# EAGLE library part PICO_RP2040_PICO_RP2040 (library ROSPIN School Payload)
Check availability <https://pricing.snapeda.com/parts/SC0915/Raspberry%20Pi/view-part?ref=eda>
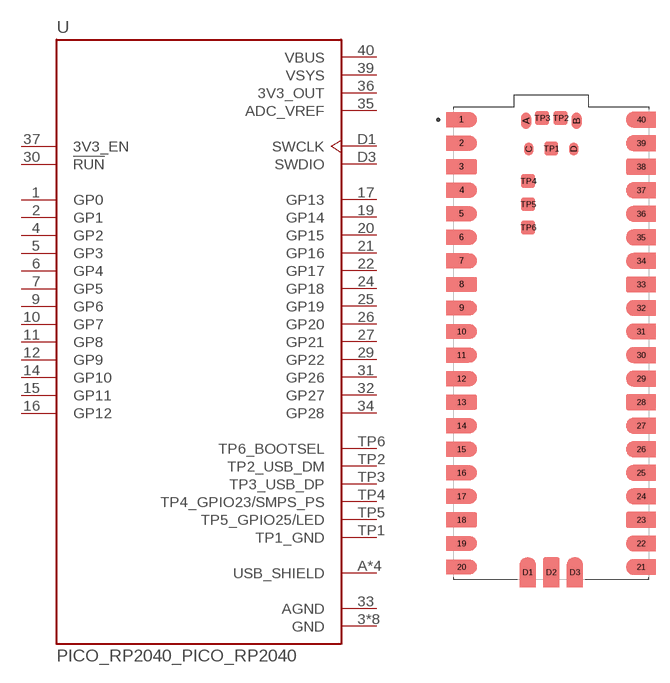
[diagram p4: symbol with the pads of PICO_RP2040_MODULE_PICO_RP2040; footprint PICO_RP2040_MODULE_PICO_RP2040]

Designator prefix U

## PICO_RP2040_PICO_RP2040 (AVAILABILITY: In Stock; DESCRIPTION: RP2040 Raspberry Pi Pico series ARM® Cortex®-M0+ MCU 32-Bit Embedded Evaluation Board; MF: Raspberry Pi; MP: SC0915; PACKAGE: None; PRICE: None; PURCHASE-URL: https://pricing.snapeda.com/search/part/SC0915/?ref=eda)  [PICO_RP2040_MODULE_PICO_RP2040]
1  GP0
2  GP1
3  GND  pwr
4  GP2
5  GP3
6  GP4
7  GP5
8  GND  pwr
9  GP6
10  GP7
11  GP8
12  GP9
13  GND  pwr
14  GP10
15  GP11
16  GP12
17  GP13
18  GND  pwr
19  GP14
20  GP15
21  GP16
22  GP17
23  GND  pwr
24  GP18
25  GP19
26  GP20
27  GP21
28  GND  pwr
29  GP22
30  !RUN  in
31  GP26
32  GP27
33  AGND  pwr
34  GP28
35  ADC_VREF  pwr
36  3V3_OUT  pwr
37  3V3_EN  in
38  GND  pwr
39  VSYS  pwr
40  VBUS  pwr
A  USB_SHIELD  pwr
B  USB_SHIELD  pwr
C  USB_SHIELD  pwr
D  USB_SHIELD  pwr
D1  SWCLK  in
D2  GND  pwr
D3  SWDIO
TP1  TP1_GND  pwr
TP2  TP2_USB_DM
TP3  TP3_USB_DP
TP4  TP4_GPIO23/SMPS_PS  nc
TP5  TP5_GPIO25/LED  out
TP6  TP6_BOOTSEL  in

## Footprint PICO_RP2040_MODULE_PICO_RP2040 (pad centres in mm)
smd 1 x 1: 1 -9.69,24.13; 2 -9.69,21.59; 3 -9.69,19.05; 4 -9.69,16.51; 5 -9.69,13.97; 6 -9.69,11.43; 7 -9.69,8.89; 8 -9.69,6.35; 9 -9.69,3.81; 10 -9.69,1.27; 11 -9.69,-1.27; 12 -9.69,-3.81; 13 -9.69,-6.35; 14 -9.69,-8.89; 15 -9.69,-11.43; 16 -9.69,-13.97; 17 -9.69,-16.51; 18 -9.69,-19.05; 19 -9.69,-21.59; 20 -9.69,-24.13; 21 9.69,-24.13; 22 9.69,-21.59; 23 9.69,-19.05; 24 9.69,-16.51; 25 9.69,-13.97; 26 9.69,-11.43; 27 9.69,-8.89; 28 9.69,-6.35; 29 9.69,-3.81; 30 9.69,-1.27; 31 9.69,1.27; 32 9.69,3.81; 33 9.69,6.35; 34 9.69,8.89; 35 9.69,11.43; 36 9.69,13.97; 37 9.69,16.51; 38 9.69,19.05; 39 9.69,21.59; 40 9.69,24.13; D1 -2.54,-24.7; D2 0,-24.7; D3 2.54,-24.7
smd 1.1 x 1.8: A -2.725,24; B 2.725,24
smd 1.05 x 1.45: C -2.425,20.97; D 2.425,20.97
smd 1.5 x 1.5: TP1 0,21; TP2 1,24.3; TP3 -1,24.3; TP4 -2.5,17.5; TP5 -2.5,15; TP6 -2.5,12.5